# EAGLE library part MICROSD_SF-MICROSD (library card_adapters)
MicroSD/Transflash card Molex datasheet for 500873-0801 connector
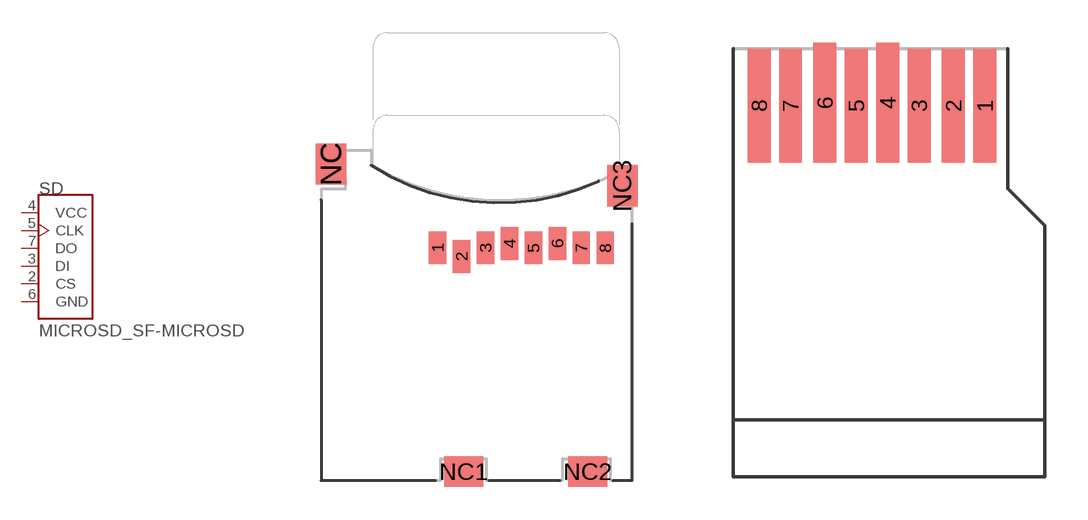
[diagram p5: symbol with the pads of MICROSD_MICROSD; footprints MICROSD_MICROSD, MICROSD_MICROSD_CARD]

Designator prefix SD

## MICROSD_SF-MICROSD  [MICROSD_MICROSD]
2  CS
3  DI
4  VCC  pas
5  CLK
6  GND  sup
7  DO

## MICROSD_SF-MICROSDC  [MICROSD_MICROSD_CARD]
Pads as for MICROSD_MICROSD

## Footprint MICROSD_MICROSD (pad centres in mm)
smd 0.8 x 1.5: 1 -1.94,2.7; 2 -0.84,2.3; 3 0.26,2.7; 4 1.36,2.9; 5 2.46,2.7; 6 3.56,2.9; 7 4.66,2.7; 8 5.76,2.7
smd 1.4 x 1.9: NC -6.85,6.55; NC3 6.55,5.55
smd 1.8 x 1.4: NC1 -0.75,-7.6; NC2 4.95,-7.6

## Footprint MICROSD_MICROSD_CARD (pad centres in mm)
smd 0.8 x 4: 1 8.8,13; 2 7.7,13; 3 6.5,13; 5 4.3,13; 7 2,13; 8 0.9,13
smd 0.8 x 4.2: 4 5.4,13.1; 6 3.2,13.1